# EAGLE library part SN74LS02N (library SN74LS02N)
QUADRUPLE 2-INPUT POSITIVE-NOR GATES Source: Datasheet <http://www.ti.com/lit/gpn/sn74ls02>
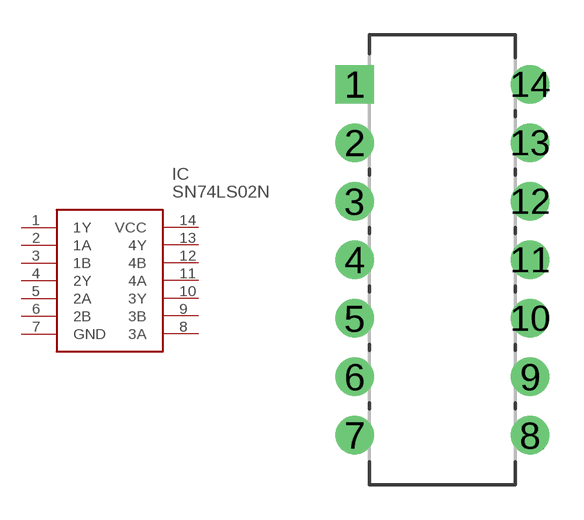
[diagram p0: symbol with the pads of DIP254P762X508-14; footprint DIP254P762X508-14]

Designator prefix IC

## SN74LS02N (Description: QUADRUPLE 2-INPUT POSITIVE-NOR GATES; Height: mm; Manufacturer_Name: Texas Instruments; Manufacturer_Part_Number: SN74LS02N; Mouser_Part_Number: 595-SN74LS02N; Mouser_Price-Stock: https://www.mouser.com/Search/Refine.aspx?Keyword=595-SN74LS02N; RS_Part_Number: 3685907; RS_Price-Stock: http://uk.rs-online.com/web/p/products/3685907)  [DIP254P762X508-14]
1  1Y
2  1A
3  1B
4  2Y
5  2A
6  2B
7  GND
8  3A
9  3B
10  3Y
11  4A
12  4B
13  4Y
14  VCC

## Footprint DIP254P762X508-14 (pad centres in mm)
DIP254P762X508-14
drill 1.118 pad 1.676 square: 1 -7.62,15.24
drill 1.118 pad 1.676: 2 -7.62,12.7; 3 -7.62,10.16; 4 -7.62,7.62; 5 -7.62,5.08; 6 -7.62,2.54; 7 -7.62,0; 8 0,0; 9 0,2.54; 10 0,5.08; 11 0,7.62; 12 0,10.16; 13 0,12.7; 14 0,15.24